# EAGLE library part LMH6646MA (library LMH6646MA)
OpAmpIC Source: Datasheet
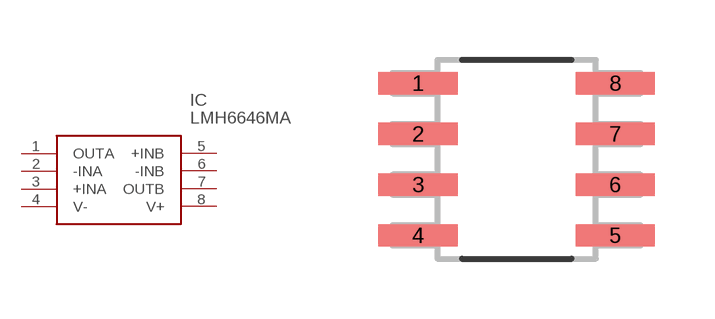
[diagram p0: symbol with the pads of SOIC127P600X175-8N; footprint SOIC127P600X175-8N]

Designator prefix IC

## LMH6646MA (Description: OpAmpIC; Height: mm; Manufacturer_Name: Texas Instruments; Manufacturer_Part_Number: LMH6646MA; Mouser_Part_Number: 926-LMH6646MA; Mouser_Price-Stock: https://www.mouser.com/Search/Refine.aspx?Keyword=926-LMH6646MA; RS_Part_Number: 4432524; RS_Price-Stock: http://uk.rs-online.com/web/p/products/4432524)  [SOIC127P600X175-8N]
1  OUTA
2  -INA
3  +INA
4  V-
5  +INB
6  -INB
7  OUTB
8  V+

## Footprint SOIC127P600X175-8N (pad centres in mm)
SOIC127P600X175-8N
smd 1.981 x 0.559: 1 -2.464,1.905; 2 -2.464,0.635; 3 -2.464,-0.635; 4 -2.464,-1.905; 5 2.464,-1.905; 6 2.464,-0.635; 7 2.464,0.635; 8 2.464,1.905